# Altium schematic symbol library 0603 4.7K.Schlib: 1 symbol
Pins are listed as number, name and electrical type; pins without a type are passive.

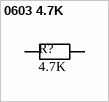
[diagram p0: symbol 0603 4.7K]

## 0603 4.7K
designator R?, comment value 4.7K  (hidden comment: Resistor)
4.7kΩ ±1% 0.1W ±100ppm/℃ 0603 Chip Resistor - Surface Mount RoHS; LCSC Part #: C23162
footprint RES 0603_1608 (Chip Resistor, 2-Leads, Body 1.60x0.80mm, IPC Medium Density)
pins: 1, 2